# EAGLE library part ADAFRUIT-MAX31855 (library SDSURocket-BreakoutBoards)
Adafruit MAX31855 Breakout K-Type Thermocouple Layout for the Adafruit MAX31855 Breakout board. Product ID: 269 <http://www.adafruit.com/product/269>
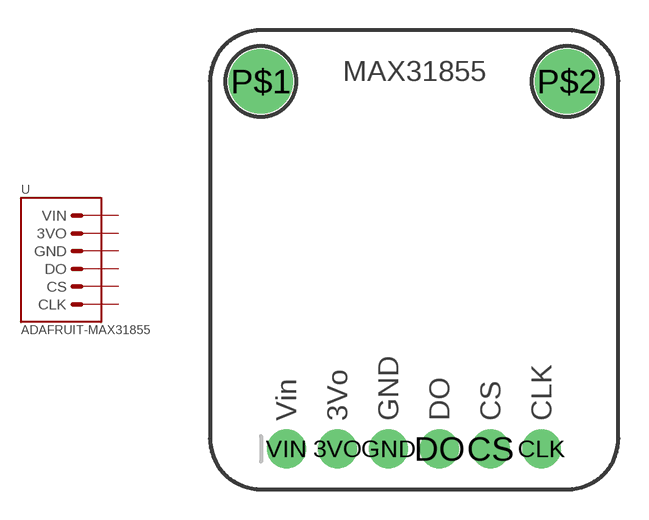
[diagram p3: symbol with the pads of ADAFRUIT-MAX31855; footprint ADAFRUIT-MAX31855]

Designator prefix -

## ADAFRUIT-MAX31855-BREAKOUT  [ADAFRUIT-MAX31855]
3VO  3VO
CLK  CLK  in
CS  CS  in
DO  DO  out
GND  GND  pwr
VIN  VIN  pwr

## Footprint ADAFRUIT-MAX31855 (pad centres in mm)
Adafruit MAX31855 Breakout K-Type Thermocouple Layout for the Adafruit MAX31855 Breakout board. Product ID: 269 <http://www.adafruit.com/product/269>
drill 1 pad 1.93: 3VO -3.81,-9.398; CLK 6.35,-9.398; CS 3.81,-9.398; DO 1.27,-9.398; GND -1.27,-9.398; VIN -6.35,-9.398
drill 2.2 pad 3: P$1 -7.62,8.89; P$2 7.62,8.89